# Altium footprint library DriverBoardForCNC.PcbLib: 25 footprints (part 1 of 2)
Each footprint in its own frame and in the unit in brackets; x right, y up, seen from the top. Pads: shape width x height; smd on the part's side, far side on the other; paste and mask are expansions set on the pad; w line width, h text height; cw(c..) or ccw(c..) is an arc to the next point about the centre after c.
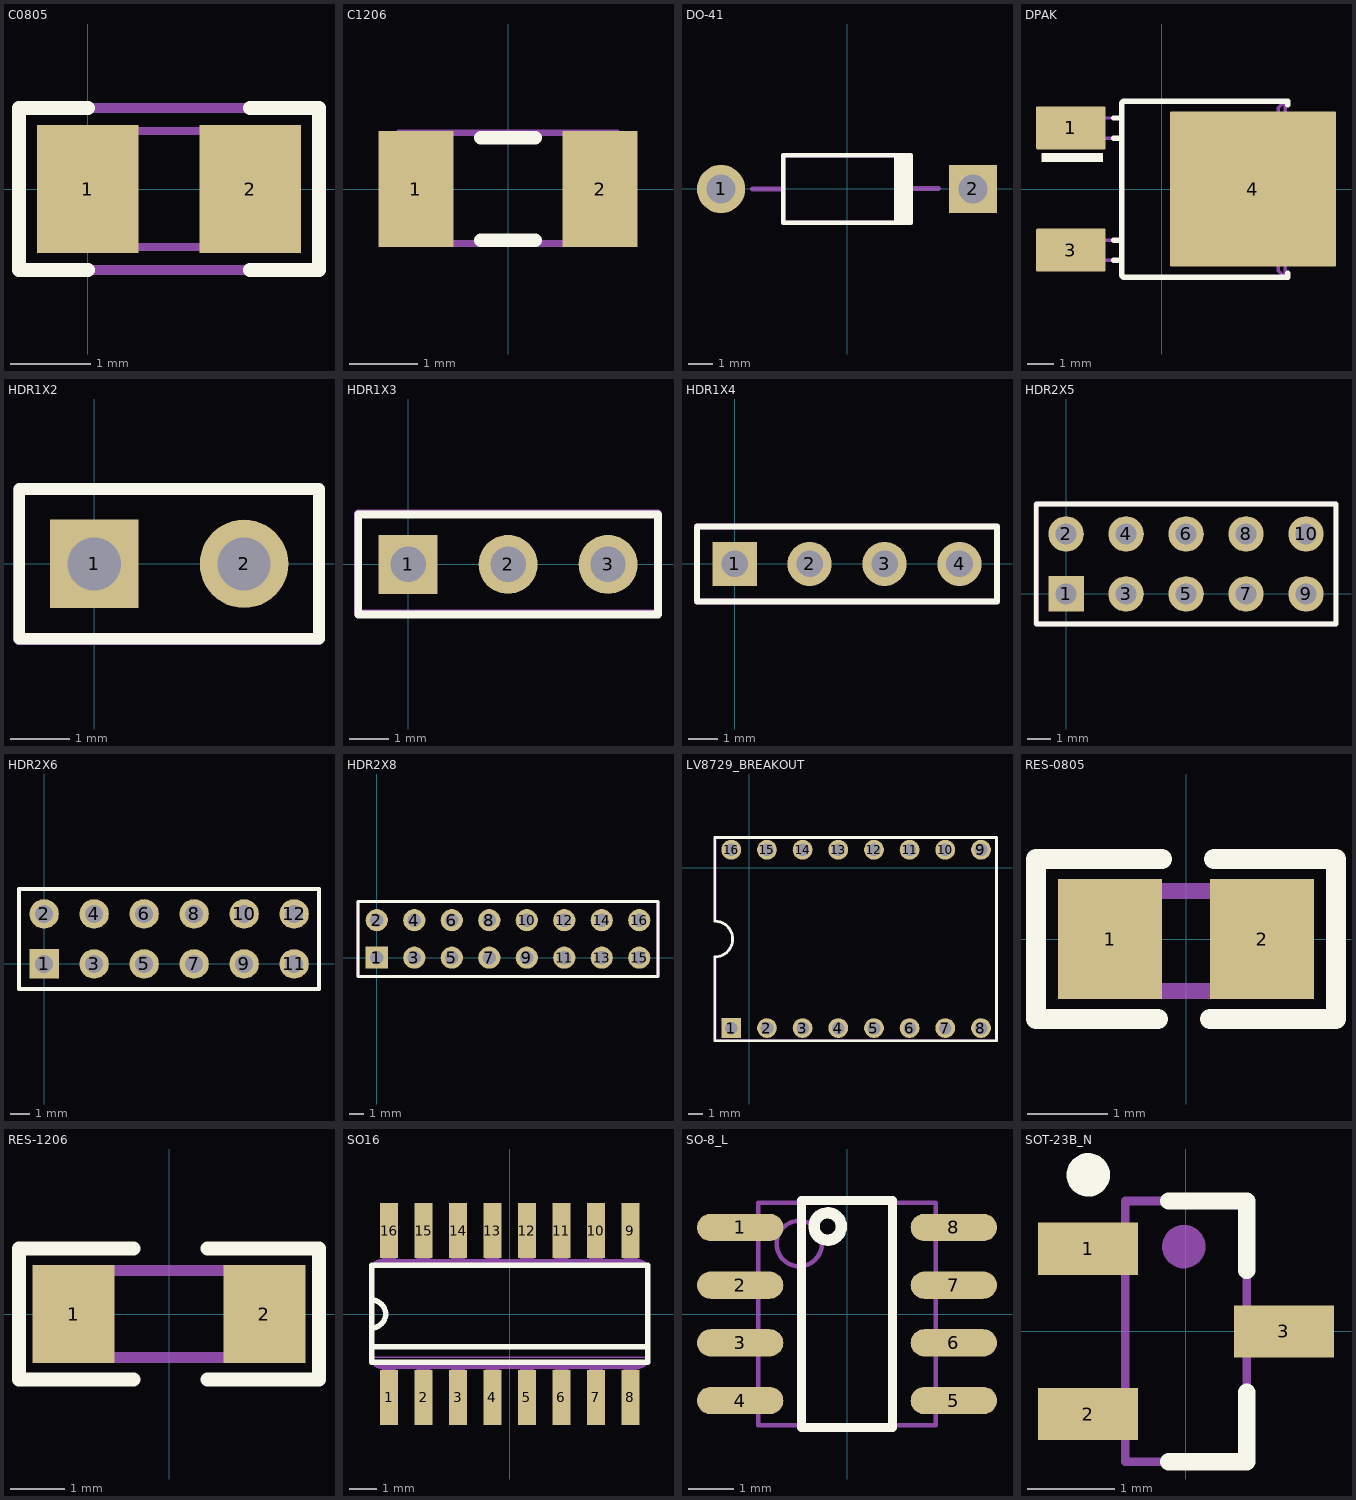
[diagram p0: the footprints below, top view; thin cyan lines are the x and y axes]

## C0805 [mil]
pads (2):
  rect 50x63 smd: 1(0,0) 2(80,0)
Top Overlay:
  lines w7: 0,-40 -34,-40 -34,0 -34,40 0,40 ; 80,-40 114,-40 114,0 114,40 80,40
M5-Top Constraints:
  lines w5: -34,-40 114,-40 114,40 -34,40 -34,-40
  text ".Designator" at -24,-17 h35
M13-Bottom 3D Body:
  lines w3.94: 14.41,-28.54 14.41,28.54 ; 65.59,-28.54 65.59,28.54 ; -3.31,-28.54 83.31,-28.54 83.31,28.54 -3.31,28.54 -3.31,-28.54
3D body "CAP 0805.x_t": height 50.66, standoff 0.5, extent -0.35,-24.57 78.39,25.59

## C1206 [mm] "Chip Capacitor, Body 3.2x1.6mm, IPC High Density"
height 1.3
pads (2):
  rect 1.1x1.7 smd: 1(-1.35,0) 2(1.35,0)
Top Overlay:
  lines w0.2: -0.4,-0.75 0.4,-0.75 ; -0.4,0.75 0.4,0.75
M14-Top Assembly:
  lines w0.1: -1.6,-0.8 1.6,-0.8 1.6,0.825 -1.6,0.825 -1.6,-0.8
3D body "CAP 1206.x_t": height 1.64, standoff 0.01, extent -1.6,-0.8 1.6,0.824

## DO-41 [mm] "Diode, Axial; Body 5.2 x 2.7 mm (LxDia. max), Lead Dia. 0.86 mm (max)"
height 2.8
pads (2):
  round 2 hole 1.2: 1(-5.23,0)
  rect 2x2 hole 1.2: 2(5.23,0)
Top Overlay:
  rectangle: 1.95,-1.4 2.75,1.4
  lines w0.2: 2.65,-1.4 -2.65,-1.4 -2.65,1.4 2.65,1.4
M14-Top Assembly:
  rectangle: 1.95,-1.4 2.75,1.4
  lines w0.2: -3.925,0 -2.65,0 ; 2.65,-1.4 -2.65,-1.4 -2.65,1.4 2.65,1.4 ; 2.675,0.025 3.8,0.025
3D body "DO-41-L=10.5.x_t": height 2.82, standoff -2.3, extent -5.654,-1.319 5.704,1.32

## DPAK [mm] "D-PAK, 3-Pads, Body 6.22x6.73mm (max), TO-252AA using nominal STEP model"
height 2.39
pads (3):
  rrect6% 2.6x1.6 smd: 1(-3.4,2.28) 3(-3.4,-2.28)
  rrect2% 6.2x5.8 smd paste-2.9: 4(3.4,0)
Top Overlay:
  rectangle: -4.5,1 -2.2,1.35
  lines w0.2: -1.8,1.9 -1.5,1.9 ; -1.8,2.65 -1.5,2.65 ; 4.7,-3.3 -1.429,-3.3 -1.5,-3.229 -1.5,-3.157 -1.5,-2.665 ; 4.7,-3.28 4.7,-3.15 ; 4.7,3.15 4.7,3.28 -1.429,3.28 -1.5,3.209 -1.5,3.137 -1.5,-1.915 ; -1.8,-2.665 -1.5,-2.665 ; -1.8,-2.665 -1.5,-2.665 ; -1.8,-2.665 -1.5,-2.665 ; -1.8,-1.915 -1.5,-1.915 ; -1.8,-1.915 -1.5,-1.915 ; -1.8,-1.915 -1.5,-1.915 ; -1.5,-2.665 -1.5,-1.915 ; -1.5,-2.665 -1.5,-1.915 ; -1.5,-2.665 -1.5,-1.915
Top Paste:
  rectangle: 0.4,1.625 1.675,2.8
  rectangle: 1.975,1.625 3.25,2.8
  rectangle: 3.55,1.625 4.825,2.8
  rectangle: 5.125,1.625 6.4,2.8
  rectangle: 0.4,0.15 1.675,1.325
  rectangle: 1.975,0.15 3.25,1.325
  rectangle: 3.55,0.15 4.825,1.325
  rectangle: 5.125,0.15 6.4,1.325
  rectangle: 0.4,-1.325 1.675,-0.15
  rectangle: 1.975,-1.325 3.25,-0.15
  rectangle: 3.55,-1.325 4.825,-0.15
  rectangle: 5.125,-1.325 6.4,-0.15
  rectangle: 5.125,-2.8 6.4,-1.625
  rectangle: 3.55,-2.8 4.825,-1.625
  rectangle: 1.975,-2.8 3.25,-1.625
  rectangle: 0.4,-2.8 1.675,-1.625
M5-Top Constraints:
  lines w0.127: -1.5,1.9 -2.757,1.9 -3.157,1.9 ; -1.5,2.65 -2.757,2.65 -3.157,2.65 ; -3.899,-2.665 -3.357,-2.665 ; -3.899,-2.665 -3.899,-1.915 ; -3.899,-2.665 -3.357,-2.665 ; -3.899,-2.665 -3.899,-1.915 ; -3.899,-2.665 -3.357,-2.665 ; -3.899,-2.665 -3.899,-1.915 ; -3.899,-1.915 -3.357,-1.915 ; -3.899,-1.915 -3.357,-1.915 ; -3.899,-1.915 -3.357,-1.915 ; -3.357,-2.665 -3.157,-2.665 ; -3.357,-2.665 -3.157,-2.665 ; -3.357,-2.665 -3.157,-2.665 ; -3.357,-1.915 -3.157,-1.915 ; -3.357,-1.915 -3.157,-1.915 ; -3.357,-1.915 -3.157,-1.915 ; -3.157,-2.665 -3.157,-1.915 ; -3.157,-2.665 -2.757,-2.665 ; -3.157,-2.665 -3.157,-1.915 ; -3.157,-2.665 -2.757,-2.665 ; -3.157,-2.665 -3.157,-1.915 ; -3.157,-2.665 -2.757,-2.665 ; -3.157,-1.915 -2.757,-1.915 ; -3.157,-1.915 -2.757,-1.915 ; -3.157,-1.915 -2.757,-1.915 ; -3.157,1.9 -3.357,1.9 -3.899,1.9 -3.899,2.65 -3.357,2.65 -3.157,2.65 ; -3.157,1.9 -3.157,2.65 ; -2.757,-2.665 -1.5,-2.665 ; -2.757,-2.665 -1.5,-2.665 ; -2.757,-2.665 -1.5,-2.665 ; -2.757,-1.915 -1.5,-1.915 ; -2.757,-1.915 -1.5,-1.915 ; -2.757,-1.915 -1.5,-1.915 ; -1.5,-2.665 -1.5,-1.915 ; -1.5,-2.665 -1.5,-1.915 ; -1.5,-2.665 -1.5,-1.915 ; -1.5,-2.665 -1.5,-3.157 -1.5,-3.229 -1.429,-3.3 4.6,-3.3 ; -1.5,-1.915 -1.5,3.137 -1.5,3.209 -1.429,3.28 4.6,3.28 ; 4.6,-3.3 4.6,-2.69 5.8,-2.69 5.8,-2.01 5.308,-2.01 5.308,1.99 5.8,1.99 5.8,2.67 4.6,2.67 4.6,3.28 ; 4.6,-3.3 4.348,-3.048 4.348,3.028 4.6,3.28
  text ".Designator" at -2.65,4.125 h1.02
3D body "td03b.stp": height 2.48, standoff 0.01, extent -3.856,-3.29 5.843,3.29

## HDR1X2 [mm] "Connector; Header; 2 Position"
pads (2):
  rect 1.5x1.5 hole 0.9: 1(0,0)
  round 1.5 hole 0.9: 2(2.54,0)
Top Overlay:
  lines w0.2: -1.27,-1.27 3.81,-1.27 3.81,1.27 -1.27,1.27 -1.27,-1.27
M14-Top Assembly:
  lines w0.2: -1.275,-1.275 -1.275,1.265 3.805,1.265 3.805,-1.275 -1.275,-1.275
3D body "PLS-2 (DS1021-1x2).x_b": height 8.61, standoff -2.99, extent -1.265,-1.275 3.815,1.265

## HDR1X3 [mm] "Connector; Header; 3 Position"
pads (3):
  rect 1.5x1.5 hole 0.9: 1(0,0)
  round 1.5 hole 0.9: 2(2.54,0) 3(5.08,0)
Top Overlay:
  lines w0.2: -1.27,-1.27 -1.27,1.27 6.35,1.27 6.35,-1.27 -1.27,-1.27
M14-Top Assembly:
  lines w0.2: -1.275,-1.25 6.345,-1.25 6.345,1.29 -1.275,1.29 -1.275,-1.25
3D body "PLS-3 (DS1021-1x3).x_b": height 8.61, standoff -2.99, extent -1.285,-1.275 6.335,1.265

## HDR1X4 [mm] "Connector; Header; 4 Position"
pads (4):
  rect 1.5x1.5 hole 0.9: 1(0,0)
  round 1.5 hole 0.9: 2(2.54,0) 3(5.08,0) 4(7.62,0)
Top Overlay:
  lines w0.2: -1.27,-1.27 -1.27,1.27 8.89,1.27 8.89,-1.27 -1.27,-1.27
M14-Top Assembly:
  lines w0.2: -1.275,-1.275 -1.275,1.265 8.885,1.265 8.885,-1.275 -1.275,-1.275
3D body "PLS-4 (DS1021-1x4).x_b": height 8.61, standoff -2.99, extent -1.28,-1.275 8.88,1.265

## HDR2X5 [mm] "Connector; Header; 5x2 Position"
pads (10):
  rect 1.5x1.5 hole 0.9: 1(0,0)
  round 1.5 hole 0.9: 2(0,2.54) 3(2.54,0) 4(2.54,2.54) 5(5.08,0) 6(5.08,2.54) 7(7.62,0) 8(7.62,2.54) 9(10.16,0) 10(10.16,2.54)
Top Overlay:
  lines w0.2: -1.27,-1.27 11.43,-1.27 11.43,3.81 -1.27,3.81 -1.27,-1.27
M14-Top Assembly:
  lines w0.2: -1.275,-1.275 -1.275,3.805 11.425,3.805 11.425,-1.275 -1.275,-1.275
  text "1" at -2.032,-0.508 h1.27
  text "2" at -2.54,2.032 h1.27
  text "10" at 11.684,2.032 h1.27
  text "9" at 11.684,-0.508 h1.27
3D body "PLS (DS1021-2x5).x_t": height 8.61, standoff -2.99, extent -1.275,-1.28 11.425,3.8

## HDR2X6 [mm] "Connector; Header; 6x2 Position"
pads (12):
  rect 1.5x1.5 hole 0.9: 1(0,0)
  round 1.5 hole 0.9: 2(0,2.54) 3(2.54,0) 4(2.54,2.54) 5(5.08,0) 6(5.08,2.54) 7(7.62,0) 8(7.62,2.54) 9(10.16,0) 10(10.16,2.54) 11(12.7,0) 12(12.7,2.54)
Top Overlay:
  lines w0.2: -1.27,-1.27 13.965,-1.27 13.965,3.81 -1.27,3.81 -1.27,-1.27
M14-Top Assembly:
  lines w0.2: -1.275,-1.275 -1.275,3.805 13.965,3.805 13.965,-1.275 -1.275,-1.275
  text "11" at 14.224,-0.508 h1.27
  text "12" at 14.224,2.032 h1.27
  text "1" at -2.032,-0.508 h1.27
  text "2" at -2.54,2.032 h1.27
3D body "PLS (DS1021-2x6).x_t": height 8.61, standoff -2.99, extent -1.27,-1.275 13.97,3.805

## HDR2X8 [mm] "Connector; Header; 8x2 Position"
pads (16):
  rect 1.5x1.5 hole 0.9: 1(0,0)
  round 1.5 hole 0.9: 2(0,2.54) 3(2.54,0) 4(2.54,2.54) 5(5.08,0) 6(5.08,2.54) 7(7.62,0) 8(7.62,2.54) 9(10.16,0) 10(10.16,2.54) 11(12.7,0) 12(12.7,2.54) 13(15.24,0) 14(15.24,2.54) 15(17.78,0) 16(17.78,2.54)
Top Overlay:
  lines w0.2: -1.27,-1.27 -1.27,3.81 19.05,3.81 19.05,-1.27 -1.27,-1.27
M14-Top Assembly:
  lines w0.2: -1.275,-1.28 19.045,-1.28 19.045,3.8 -1.275,3.8 -1.275,-1.28
  text "15" at 19.304,-0.508 h1.27
  text "16" at 19.304,2.032 h1.27
  text "2" at -2.54,2.032 h1.27
  text "1" at -2.275,-0.525 h1.27
3D body "PLS (DS1021-2x8).x_t": height 8.61, standoff -2.99, extent -1.285,-1.28 19.035,3.8

## LV8729_BREAKOUT [mil] "LV8729_BREAKOUT"
pads (16):
  rect 55.43x55.43 hole 35.43: 1(-50,-450)
  round 55.43 / inner round 0 / far side round 55.43 hole 35.43: 2(50,-450) 3(150,-450) 4(250,-450) 5(350,-450) 6(450,-450) 7(550,-450) 8(650,-450) 9(650,50) 10(550,50) 11(450,50) 12(350,50) 13(250,50) 14(150,50) 15(50,50) 16(-50,50)
Top Overlay:
  lines w7.87: -96.1,-485.35 -96.1,-250.35 ccw(c-96.1,-200.35) -96.1,-150.35 -96.1,84.65 693.9,84.65 693.9,-485.35 -96.1,-485.35
M14-Top Assembly:
  lines w6: -95,-485 695,-485 695,85 -95,85 -95,-150 cw(c-95,-200) -95,-250 -95,-485
  text "DIR" at 675,-400 h59.06
  text "GND" at 667.32,-103.35 h59.06
  text "STEP" at 575,-400 h59.06
  text "VDD" at 568.9,-101.38 h59.06
  text "MS2" at 175,-400 h59.06
  text "MS3" at 275,-400 h59.06
  text "2B" at 166.34,-53.15 h59.06
  text "2A" at 261.81,-52.17 h59.06
  text "SLP" at 475,-400 h59.06
  text "RST" at 375,-400 h59.06
  text "1A" at 361.22,-56.1 h59.06
  text "MS1" at 75,-400 h59.06
  text "GND" at 66.93,-105.31 h59.06
  text "Vmot" at -35.43,-119.09 h59.06
  text "1B" at 467.52,-57.09 h59.06
  text "EN" at -25,-400 h59.06
3D body "LV8729Driver.x_b": height 1024.13, standoff -117.61, extent -100.4,-500.99 700.79,99.41

## RES-0805 [mm] "Chip Resistor; Body 2 x 1.3 mm (LxW typ)"
height 0.6
pads (2):
  rect 1.3x1.5 smd: 1(-0.95,0) 2(0.95,0)
Top Overlay:
  lines w0.254: -0.35,-1 -1.875,-1 -1.875,1 -0.3,1 ; 0.3,-1 1.875,-1 1.875,1 0.35,1
M14-Top Assembly:
  lines w0.2: -1.25,-0.65 -1.25,0.6 1.3,0.6 1.3,-0.65 -1.25,-0.65
3D body "Resistor 0805.x_b": height 0.51, standoff 0.01, extent -1.236,-0.65 1.286,0.6

## RES-1206 [mm] "Chip Resistor; Body  x mm (LxW typ)"
pads (2):
  rect 1.5x1.8 smd: 1(-1.75,0) 2(1.75,0)
Top Overlay:
  lines w0.254: -2.75,1.175 -2.75,-1.2 -0.65,-1.2 ; -2.75,1.2 -0.65,1.2 ; 0.7,-1.2 2.75,-1.2 2.75,1.175 ; 0.7,1.2 2.75,1.2
M14-Top Assembly:
  lines w0.2: -1.9,-0.8 1.9,-0.8 1.9,0.8 0.3,0.8 -1.9,0.8 -1.9,-0.8
3D body "Resistor 1206.x_t": height 0.61, standoff 0.01, extent -1.9,-0.8 1.9,0.8

## SO16 [mil] "SO16 D Small outline"
height 68.9
pads (16):
  rect 26x80 smd: 1(-175,-121) 2(-125,-121) 3(-75,-121) 4(-25,-121) 5(25,-121) 6(75,-121) 7(125,-121) 8(175,-121) 9(175,121) 10(125,121) 11(75,121) 12(25,121) 13(-25,121) 14(-75,121) 15(-125,121) 16(-175,121)
Top Overlay:
  lines w7.87: -200,-47.24 200,-47.24 ; -200,70.87 -200,20 ; -199.8,70.87 200,70.87 200,-70.11 -200,-70.11 -200,-20 ; -200,-20 ccw(c-200,0) -200,20 ; -200,-20 -200,20
M4-Bottom Dimensions:
  region: 165,77 165,122 185,122 185,77
  region: 115,77 115,122 135,122 135,77
  region: 65,77 65,122 85,122 85,77
  region: 15,77 15,122 35,122 35,77
  region: 165,-122 165,-77 185,-77 185,-122
  region: 115,-122 115,-77 135,-77 135,-122
  region: 65,-122 65,-77 85,-77 85,-122
  region: 15,-122 15,-77 35,-77 35,-122
  region: -185,77 -185,122 -165,122 -165,77
  region: -135,77 -135,122 -115,122 -115,77
  region: -85,77 -85,122 -65,122 -65,77
  region: -35,-122 -35,-77 -15,-77 -15,-122
  region: -85,-121 -85,-76 -65,-76 -65,-121
  region: -135,-122 -135,-77 -115,-77 -115,-122
  region: -185,-122 -185,-77 -165,-77 -165,-122
  region: -35,77 -35,122 -15,122 -15,77
M14-Top Assembly:
  lines w2: -200,-63 200,-63
  lines w6: -200,-20 ccw(c-200,0) -200,20 ; -200,-20 -200,-62 ccw(c-185,-62) -185,-77 185,-77 ccw(c185,-62) 200,-62 200,62 ccw(c185,62) 185,77 -185,77 ccw(c-185,62) -200,62 -200,20 ; -200,-20 -200,20
3D body "SOIC16 narrow.x_b": height 78.74, standoff 0.13, extent -198.43,-121.32 198.42,121.32

## SO-8_L [mm] "8-Pin Small Outline Integrated Circuit 1.27 mm Pitch, IPC High Density"
height 1.75
pads (8):
  oval 1.9x0.6 smd: 1(-2.35,1.905) 2(-2.35,0.635) 3(-2.35,-0.635) 4(-2.35,-1.905) 5(2.35,-1.905) 6(2.35,-0.635) 7(2.35,0.635) 8(2.35,1.905)
Top Overlay:
  circle w0.25: c-0.425,1.925 r0.3
  lines w0.2: -1,-2.5 1,-2.5 1,2.5 -1,2.5 -1,-2.5
M14-Top Assembly:
  circle w0.1: c-1.05,1.55 r0.5
  lines w0.1: -1.95,-2.45 1.95,-2.45 1.95,2.45 -1.95,2.45 -1.95,-2.45
3D body "SO-8.x_t": height 1.51, standoff 0.01, extent -3.089,-2.425 2.939,2.475

## SOT-23B_N [mm] "SOT23, 3-Leads, Body 2.9x1.3mm, Pitch 0.95mm, Lead Span 2.4mm, IPC Medium Density"
height 1.14
pads (3):
  rect 1.15x0.6 smd: 1(-1.125,0.95) 2(-1.125,-0.95) 3(1.125,0)
Top Overlay:
  circle w0.25: c-1.125,1.8 r0.125
  lines w0.2: -0.2,-1.5 0.7,-1.5 0.7,-0.7 ; -0.2,1.5 0.7,1.5 0.7,0.7
M14-Top Assembly:
  circle w0.25: c-0.025,0.975 r0.125
  lines w0.1: -0.7,-1.5 0.7,-1.5 0.7,1.5 -0.7,1.5 -0.7,-1.5
3D body "sot-23-3-infineon.x_b": height 1, standoff 0, extent -1.135,-1.45 1.185,1.45